# Altium integrated library Linear Technology Power Management uModule Regulators.IntLib: 166 symbols (part 44 of 67)
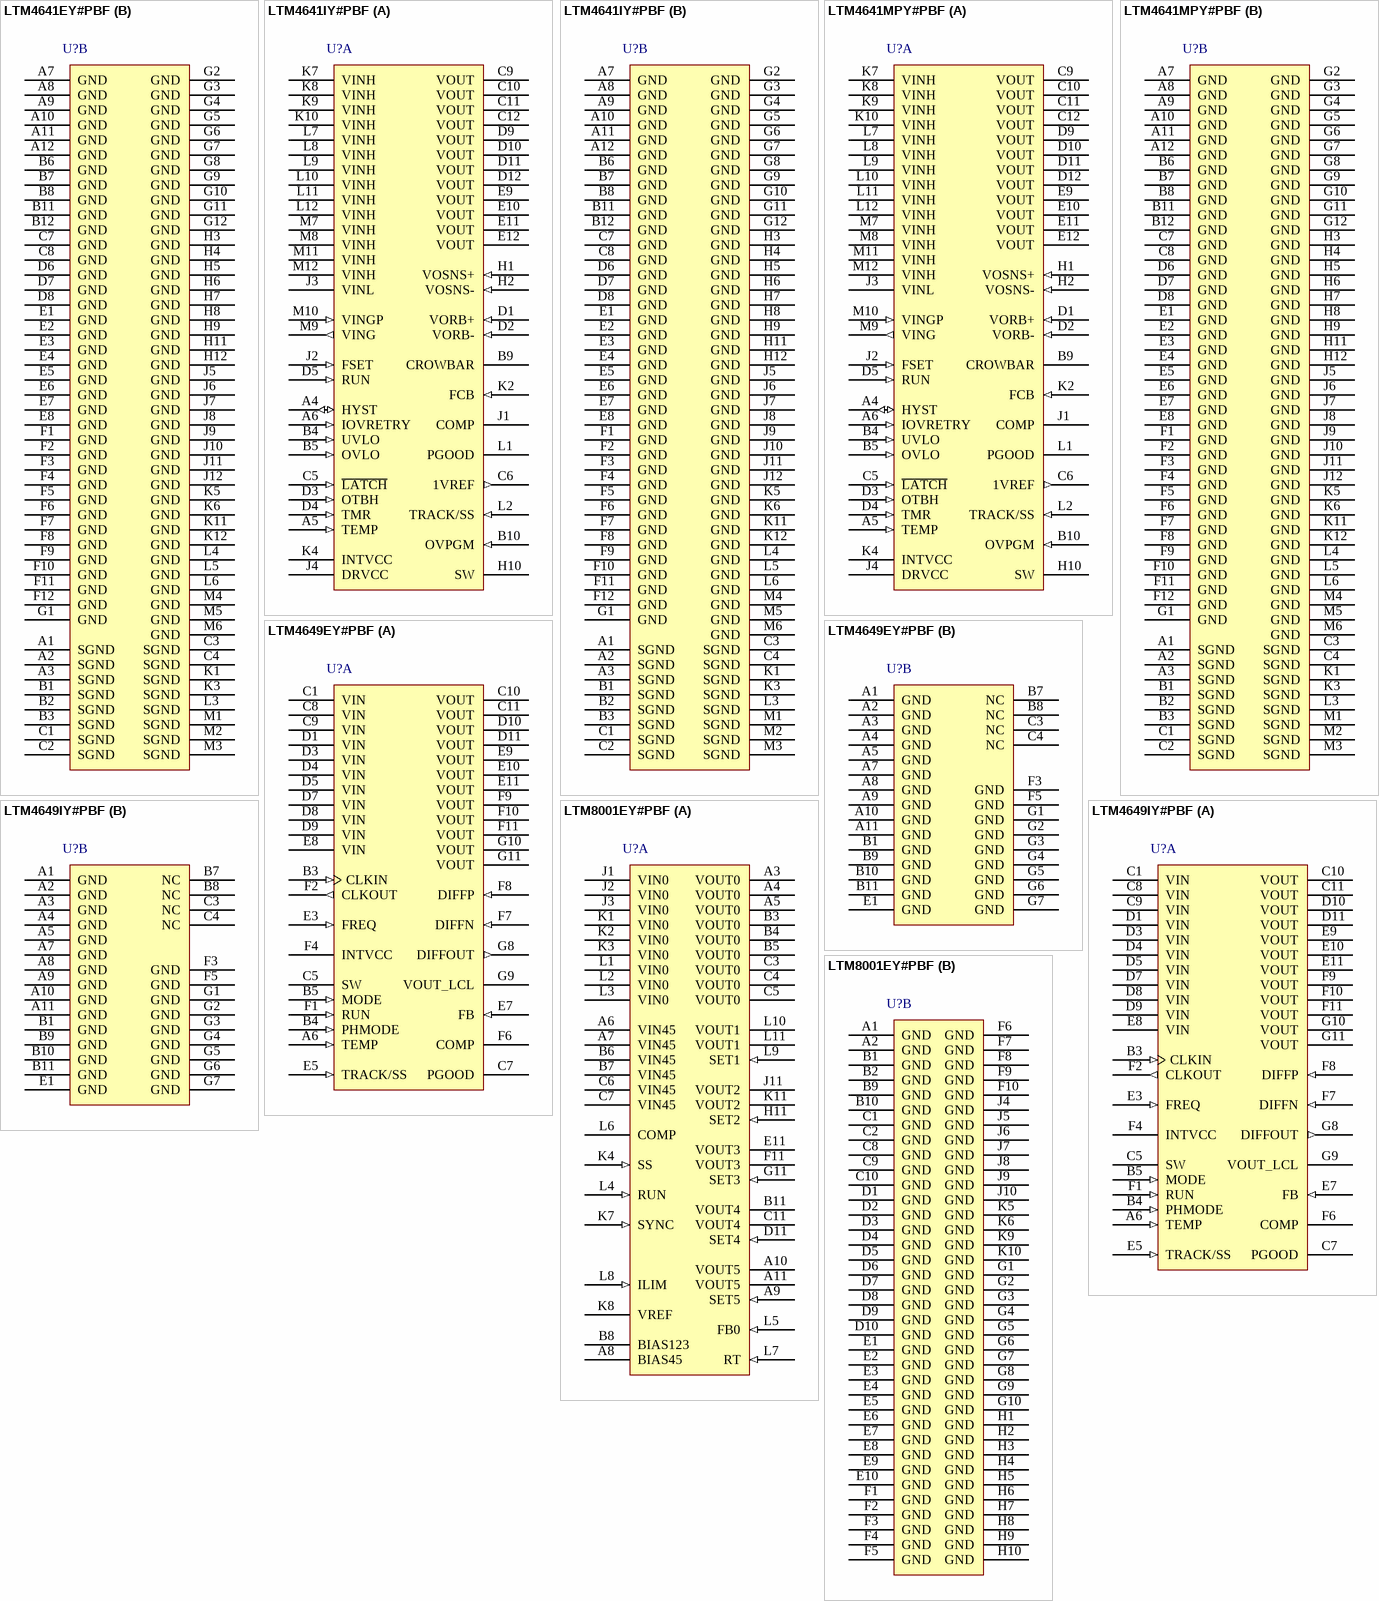
[diagram p70: symbols LTM4641EY#PBF to LTM8001EY#PBF]

## LTM4641IY#PBF
designator U?
38 V, 10 A DC/DC uModule Regulator with Advanced Input and Load Protection, 144-pin BGA, -40 to 125 degC, Pb-Free, Tray; Manufacturer: Linear Technology; PartNumber: LTM4641IY#PBF; Extended Temp: E, I, MP; Ishutdown(uA): 200; Isupply(mA): 14.5; Number of Outputs: 1; Output Current(A): 10; Switch Current(A): 15; Synchronous: yes; Topology: Buck; Vin Max(V): 38; Vin Min(V): 4.5; Vout Max(V): 6; Vout Min(V): 0.6; DatasheetVersion: Rev. C; PackageVersion: Rev. A, 01/2013; PackageReference: BGA-144; PackageDescription: 144-Ball BGA, Body 15 x15 mm, Pitch 1.27 mm; Supplier 1: Digi-Key; Supplier Part Number 1: LTM4641IY#PBF-ND; Supplier 2: Farnell; Supplier Part Number 2: 2293137; Supplier 3: Newark; Supplier Part Number 3: 48W6442; Packing: Tray; RoHS: TRUE; Tracking: yes; Mounting Technology: Surface Mount; Code_JEDEC: MS-028; ComponentLink1Description: Manufacturer URL; ComponentLink1URL: http://www.linear.com/; ComponentLink2Description: Datasheet; ComponentLink2URL: http://cds.linear.com/docs/en/datasheet/4641fc.pdf; ComponentLink3Description: Package Specification; ComponentLink3URL: http://cds.linear.com/docs/en/packaging/05081914_A_bga144.pdf
footprint LT-BGA-144-05-08-1914 (BGA, 144-Balls, Body 15x15mm, Pitch 1.27mm)
part A pins: A4 HYST (io) "Input Undervoltage Hysteresis Programming Pin. Normally used as an output, but can be used as an input. If the LTM4641’s inherent, default undervoltage lockout (UVLO) settings are satisfactory, 4.5VIN(RISING, MAX) an(See Datasheet)", A5 TEMP (in) "Power Stage Temperature Indicator and Overtemperature Detection Pin. When left electrically open circuit, TEMP’s voltage varies according to an internal NTC (negative temperature coefficient) thermistor, residing in clos(See Datasheet)", A6 IOVRETRY (in) "Nonlatching Input Overvoltage Threshold Programming Pin. The LTM4641 pulls HYST low to inhibit regulation of its output voltage when IOVRETRY exceeds 0.5V. The LTM4641 can resume switching action when IOVRETRY is below 0.5V. (See Datasheet)", B4 UVLO (in) "Input Undervoltage Lockout Programming Pin. The LTM4641 pulls HYST low to inhibit regulation of its output voltage whenever UVLO is less than 0.5V. The LTM4641 can resume switching action when UVLO exceeds 0.5V. Do not leave (See Datasheet)", B5 OVLO (in) "Input Overvoltage Latchoff Programming Pin. LTM4641 pulls HYST low to inhibit regulation of its output voltage when OVLO exceeds 0.5V. If OVLO subsequently falls below 0.5V, the module’s output remains latched off; th(See Datasheet)", B9 CROWBAR (hiz) "Crowbar Output Pin. Normally logic low, with moderate pull-down strength to SGND.", B10 OVPGM (in) "Output Overvoltage Threshold Programming Pin. The voltage on this pin sets the trip threshold for the inverting input pin of LTM4641’s fast OOV comparator. When left electrically open circuit, resistors internal to th(See Datasheet)", C5 ~{LATCH} (in) "Latchoff Reset Pin. When a latchoff fault occurs, the LTM4641 turns off its output and latches MHYST on to indicate a fault condition has occurred (see HYST). To configure the LTM4641 for latched off response to latchoff (See Datasheet)", C6 1VREF (out) "Buffered 1V Reference Output Pin. Minimize capacitance on this pin, to assure the OVPGM and TEMP pins are operational in a timely manner at power-up. 1VREF should never be externally loaded except as explained in the (See Datasheet)", C9 VOUT (power) "Power Output Pins of the LTM4641 DC/DC Converter Power Stage. All VOUT pins are electrically connected to each other, internally. Apply output load between these pins and the GND pins. It is recommended to place output (See Datasheet)", C10 VOUT (power) "Power Output Pins of the LTM4641 DC/DC Converter Power Stage. All VOUT pins are electrically connected to each other, internally. Apply output load between these pins and the GND pins. It is recommended to place output (See Datasheet)", C11 VOUT (power) "Power Output Pins of the LTM4641 DC/DC Converter Power Stage. All VOUT pins are electrically connected to each other, internally. Apply output load between these pins and the GND pins. It is recommended to place output (See Datasheet)", C12 VOUT (power) "Power Output Pins of the LTM4641 DC/DC Converter Power Stage. All VOUT pins are electrically connected to each other, internally. Apply output load between these pins and the GND pins. It is recommended to place output (See Datasheet)", D1 VORB+ (in) "VOSNS + Readback Pin. This pin connects to VOSNS + internal to the uModule regulator. It is recommended to route this pin (differentially with VORB -) to a test point so as to allow the user a way to confirm the integrity of (See Datasheet)", D2 VORB- (in) "VOSNS - Readback Pin. This pin connects to VOSNS - internal to the uModule regulator. It is recommended to route this pin (differentially with VORB +) to a test point so as to allow the user a way to confirm the integrity of (See Datasheet)", D3 OTBH (in) "Overtemperature Behavior Programming Pin. When an overtemperature condition is detected (see TEMP), HYST pulls logic low to inhibit switching. If OTBH is connected to SGND, the LTM4641 latches HYST low. If OTBH is left (See Datasheet)", D4 TMR (in) "Timeout Delay Timer and Power-On Reset (POR) Programming Pin. Connect a capacitor (CTMR) from TMR to SGND to program the POR and timeout delay time of the LTM4641; 9ms delay time per nanofarad of capacitance. The minimum (See Datasheet)", D5 RUN (in) "Run (On/Off) Control Pin. A RUN pin voltage below 0.8V will turn off the module. A voltage above 2V will command the module to turn on, if HYST is not asserted low by MHYST. The LTM4641 contains a moderate (10k) pull-up (See Datasheet)", D9 VOUT (power) "Power Output Pins of the LTM4641 DC/DC Converter Power Stage. All VOUT pins are electrically connected to each other, internally. Apply output load between these pins and the GND pins. It is recommended to place output (See Datasheet)", D10 VOUT (power) "Power Output Pins of the LTM4641 DC/DC Converter Power Stage. All VOUT pins are electrically connected to each other, internally. Apply output load between these pins and the GND pins. It is recommended to place output (See Datasheet)", D11 VOUT (power) "Power Output Pins of the LTM4641 DC/DC Converter Power Stage. All VOUT pins are electrically connected to each other, internally. Apply output load between these pins and the GND pins. It is recommended to place output (See Datasheet)", D12 VOUT (power) "Power Output Pins of the LTM4641 DC/DC Converter Power Stage. All VOUT pins are electrically connected to each other, internally. Apply output load between these pins and the GND pins. It is recommended to place output (See Datasheet)", E9 VOUT (power) "Power Output Pins of the LTM4641 DC/DC Converter Power Stage. All VOUT pins are electrically connected to each other, internally. Apply output load between these pins and the GND pins. It is recommended to place output (See Datasheet)", E10 VOUT (power) "Power Output Pins of the LTM4641 DC/DC Converter Power Stage. All VOUT pins are electrically connected to each other, internally. Apply output load between these pins and the GND pins. It is recommended to place output (See Datasheet)", E11 VOUT (power) "Power Output Pins of the LTM4641 DC/DC Converter Power Stage. All VOUT pins are electrically connected to each other, internally. Apply output load between these pins and the GND pins. It is recommended to place output (See Datasheet)", E12 VOUT (power) "Power Output Pins of the LTM4641 DC/DC Converter Power Stage. All VOUT pins are electrically connected to each other, internally. Apply output load between these pins and the GND pins. It is recommended to place output (See Datasheet)", H1 VOSNS+ (in) "Positive Input to the Remote Sense Differential Amplifier. This pin connects to the positive side of the output voltage remote sense point (VOUT potential) via a resistor (RSET1A). When regulating the output voltage, the (See Datasheet)", H2 VOSNS- (in) "Negative Input to the Remote Sense Differential Amplifier. This pin connects to the negative side of the output voltage remote sense point (GND potential) via a resistor (RSET1B). When switching action is on, the LTM4641 (See Datasheet)", H10 SW "Switching Node of the Power Stage. Mainly used for testing purposes, however, one may optionally connect a snubber (series-configured capacitor CSW and resistor RSW) from SW to GND to reduce radiated EMI-in exchange for a (See Datasheet)", J1 COMP "Current Control Threshold and Error Amplifier Compensation Point. The current comparator threshold of LTM4641’s valley current mode control loop-and correspondingly, the commanded trough of the power inducto(See Datasheet)", J2 FSET (in) "Switching Frequency Setting and Adjustment Pin. This pin interfaces directly to the ION pin of LTM4641’s internal control IC. Current flow into the ION pin programs the on-time of the control loop’s one-shot timer (See Datasheet)", J3 VINL (power) "Input Voltage Pin, Low Current for Power Control and Logic Bias. Feeds LTM4641’s internal 5.3V LDO (see INTVCC). Apply input voltage bias between this pin and GND. Decouple to GND with a capacitor (0.1uF to 1uF). This pi(See Datasheet)", J4 DRVCC (power) "Power MOSFET Driver Input Power Pin. DRVCC is normally connected to INTVCC. It must be kept within two diode drops (2 x VBE or ~1.2V at 25degreesC) of INTVCC. DRVCC powers the internal MOSFET driver that interfaces to the (See Datasheet)", K2 FCB (in) "Forced Continuous/Pulse-Skipping Mode Operation Programming Pin. Connect this pin to SGND to force continuous mode operation of the synchronous power MOSFETs (MTOP and MBOT) at all output load conditions. Connect this pin to (See Datasheet)", K4 INTVCC (power) "Internal 5.3V LDO Output. LDO operates off of VINL. The INTVCC rail biases low power control and housekeeping circuitry. INTVCC is usually connected to DRVCC to power the MOSFET drivers interfacing to the switching power (See Datasheet)", K7 VINH (power) "Input Voltage Pin, High Current to the Power Converter Stage of the LTM4641. All VINH pins are electrically connected to each other internally. Devote a large copper plane to connect as many of the VINH pins to each other as (See Datasheet)", K8 VINH (power) "Input Voltage Pin, High Current to the Power Converter Stage of the LTM4641. All VINH pins are electrically connected to each other internally. Devote a large copper plane to connect as many of the VINH pins to each other as (See Datasheet)", K9 VINH (power) "Input Voltage Pin, High Current to the Power Converter Stage of the LTM4641. All VINH pins are electrically connected to each other internally. Devote a large copper plane to connect as many of the VINH pins to each other as (See Datasheet)", K10 VINH (power) "Input Voltage Pin, High Current to the Power Converter Stage of the LTM4641. All VINH pins are electrically connected to each other internally. Devote a large copper plane to connect as many of the VINH pins to each other as (See Datasheet)", L1 PGOOD (oc) "Output Voltage Power Good Indicator. This is an open-drain logic output pin that is pulled to ground when the output voltage (and accordingly, the divided-down representation of the output voltage, VFB, as presented to the (See Datasheet)", L2 TRACK/SS (in) "Output Voltage Tracking and Soft-Start SGND to obtain an output voltage soft-start ramp-up rate whose turn-on time is 0.6ms per nanofarad of capacitance. Alternatively, when a voltage is applied to TRACK/SS through a (See Datasheet)", L7 VINH (power) "Input Voltage Pin, High Current to the Power Converter Stage of the LTM4641. All VINH pins are electrically connected to each other internally. Devote a large copper plane to connect as many of the VINH pins to each other as (See Datasheet)", L8 VINH (power) "Input Voltage Pin, High Current to the Power Converter Stage of the LTM4641. All VINH pins are electrically connected to each other internally. Devote a large copper plane to connect as many of the VINH pins to each other as (See Datasheet)", L9 VINH (power) "Input Voltage Pin, High Current to the Power Converter Stage of the LTM4641. All VINH pins are electrically connected to each other internally. Devote a large copper plane to connect as many of the VINH pins to each other as (See Datasheet)", L10 VINH (power) "Input Voltage Pin, High Current to the Power Converter Stage of the LTM4641. All VINH pins are electrically connected to each other internally. Devote a large copper plane to connect as many of the VINH pins to each other as (See Datasheet)", L11 VINH (power) "Input Voltage Pin, High Current to the Power Converter Stage of the LTM4641. All VINH pins are electrically connected to each other internally. Devote a large copper plane to connect as many of the VINH pins to each other as (See Datasheet)", L12 VINH (power) "Input Voltage Pin, High Current to the Power Converter Stage of the LTM4641. All VINH pins are electrically connected to each other internally. Devote a large copper plane to connect as many of the VINH pins to each other as (See Datasheet)", M7 VINH (power) "Input Voltage Pin, High Current to the Power Converter Stage of the LTM4641. All VINH pins are electrically connected to each other internally. Devote a large copper plane to connect as many of the VINH pins to each other as (See Datasheet)", M8 VINH (power) "Input Voltage Pin, High Current to the Power Converter Stage of the LTM4641. All VINH pins are electrically connected to each other internally. Devote a large copper plane to connect as many of the VINH pins to each other as (See Datasheet)", M9 VING (out) "Gate Drive Output Pin. If utilizing the advanced output overvoltage (OOV) protection features of the LTM4641, connect VING to VINGP and to the gate of the external power-interrupt N-channel MOSFET feeding VINH, identified on (See Datasheet)", M10 VINGP (in) "Gate Drive Protection Pin. If utilizing the advanced OOV protection features of the LTM4641, connect VINGP to VING and to the gate of the external power-interrupt N-channel MOSFET feeding VINH, MSP; otherwise, leave this pin (See Datasheet)", M11 VINH (power) "Input Voltage Pin, High Current to the Power Converter Stage of the LTM4641. All VINH pins are electrically connected to each other internally. Devote a large copper plane to connect as many of the VINH pins to each other as (See Datasheet)", M12 VINH (power) "Input Voltage Pin, High Current to the Power Converter Stage of the LTM4641. All VINH pins are electrically connected to each other internally. Devote a large copper plane to connect as many of the VINH pins to each other as (See Datasheet)"
part B pins: A1 SGND (power) "Signal Ground Pins. This is the return ground path for all analog control and low power circuitry. SGND is tied to GND internal to the uModule regulator in a manner that promotes the best internal signal integrity-therefore, (See Datasheet)", A2 SGND (power) "Signal Ground Pins. This is the return ground path for all analog control and low power circuitry. SGND is tied to GND internal to the uModule regulator in a manner that promotes the best internal signal integrity-therefore, (See Datasheet)", A3 SGND (power) "Signal Ground Pins. This is the return ground path for all analog control and low power circuitry. SGND is tied to GND internal to the uModule regulator in a manner that promotes the best internal signal integrity-therefore, (See Datasheet)", A7 GND (power) "Power ground pins for input and output returns. See the Layout Checklist/Example section of the Applications Information section. All GND pins are electrically connected to each other, internally.", A8 GND (power) "Power ground pins for input and output returns. See the Layout Checklist/Example section of the Applications Information section. All GND pins are electrically connected to each other, internally.", A9 GND (power) "Power ground pins for input and output returns. See the Layout Checklist/Example section of the Applications Information section. All GND pins are electrically connected to each other, internally.", A10 GND (power) "Power ground pins for input and output returns. See the Layout Checklist/Example section of the Applications Information section. All GND pins are electrically connected to each other, internally.", A11 GND (power) "Power ground pins for input and output returns. See the Layout Checklist/Example section of the Applications Information section. All GND pins are electrically connected to each other, internally.", A12 GND (power) "Power ground pins for input and output returns. See the Layout Checklist/Example section of the Applications Information section. All GND pins are electrically connected to each other, internally.", B1 SGND (power) "Signal Ground Pins. This is the return ground path for all analog control and low power circuitry. SGND is tied to GND internal to the uModule regulator in a manner that promotes the best internal signal integrity-therefore, (See Datasheet)", B2 SGND (power) "Signal Ground Pins. This is the return ground path for all analog control and low power circuitry. SGND is tied to GND internal to the uModule regulator in a manner that promotes the best internal signal integrity-therefore, (See Datasheet)", B3 SGND (power) "Signal Ground Pins. This is the return ground path for all analog control and low power circuitry. SGND is tied to GND internal to the uModule regulator in a manner that promotes the best internal signal integrity-therefore, (See Datasheet)", B6 GND (power) "Power ground pins for input and output returns. See the Layout Checklist/Example section of the Applications Information section. All GND pins are electrically connected to each other, internally.", B7 GND (power) "Power ground pins for input and output returns. See the Layout Checklist/Example section of the Applications Information section. All GND pins are electrically connected to each other, internally.", B8 GND (power) "Power ground pins for input and output returns. See the Layout Checklist/Example section of the Applications Information section. All GND pins are electrically connected to each other, internally.", B11 GND (power) "Power ground pins for input and output returns. See the Layout Checklist/Example section of the Applications Information section. All GND pins are electrically connected to each other, internally.", B12 GND (power) "Power ground pins for input and output returns. See the Layout Checklist/Example section of the Applications Information section. All GND pins are electrically connected to each other, internally.", C1 SGND (power) "Signal Ground Pins. This is the return ground path for all analog control and low power circuitry. SGND is tied to GND internal to the uModule regulator in a manner that promotes the best internal signal integrity-therefore, (See Datasheet)", C2 SGND (power) "Signal Ground Pins. This is the return ground path for all analog control and low power circuitry. SGND is tied to GND internal to the uModule regulator in a manner that promotes the best internal signal integrity-therefore, (See Datasheet)", C3 SGND (power) "Signal Ground Pins. This is the return ground path for all analog control and low power circuitry. SGND is tied to GND internal to the uModule regulator in a manner that promotes the best internal signal integrity-therefore, (See Datasheet)", C4 SGND (power) "Signal Ground Pins. This is the return ground path for all analog control and low power circuitry. SGND is tied to GND internal to the uModule regulator in a manner that promotes the best internal signal integrity-therefore, (See Datasheet)", C7 GND (power) "Power ground pins for input and output returns. See the Layout Checklist/Example section of the Applications Information section. All GND pins are electrically connected to each other, internally.", C8 GND (power) "Power ground pins for input and output returns. See the Layout Checklist/Example section of the Applications Information section. All GND pins are electrically connected to each other, internally.", D6 GND (power) "Power ground pins for input and output returns. See the Layout Checklist/Example section of the Applications Information section. All GND pins are electrically connected to each other, internally.", D7 GND (power) "Power ground pins for input and output returns. See the Layout Checklist/Example section of the Applications Information section. All GND pins are electrically connected to each other, internally.", D8 GND (power) "Power ground pins for input and output returns. See the Layout Checklist/Example section of the Applications Information section. All GND pins are electrically connected to each other, internally.", E1 GND (power) "Power ground pins for input and output returns. See the Layout Checklist/Example section of the Applications Information section. All GND pins are electrically connected to each other, internally.", E2 GND (power) "Power ground pins for input and output returns. See the Layout Checklist/Example section of the Applications Information section. All GND pins are electrically connected to each other, internally.", E3 GND (power) "Power ground pins for input and output returns. See the Layout Checklist/Example section of the Applications Information section. All GND pins are electrically connected to each other, internally.", E4 GND (power) "Power ground pins for input and output returns. See the Layout Checklist/Example section of the Applications Information section. All GND pins are electrically connected to each other, internally.", E5 GND (power) "Power ground pins for input and output returns. See the Layout Checklist/Example section of the Applications Information section. All GND pins are electrically connected to each other, internally.", E6 GND (power) "Power ground pins for input and output returns. See the Layout Checklist/Example section of the Applications Information section. All GND pins are electrically connected to each other, internally.", E7 GND (power) "Power ground pins for input and output returns. See the Layout Checklist/Example section of the Applications Information section. All GND pins are electrically connected to each other, internally.", E8 GND (power) "Power ground pins for input and output returns. See the Layout Checklist/Example section of the Applications Information section. All GND pins are electrically connected to each other, internally.", F1 GND (power) "Power ground pins for input and output returns. See the Layout Checklist/Example section of the Applications Information section. All GND pins are electrically connected to each other, internally.", F2 GND (power) "Power ground pins for input and output returns. See the Layout Checklist/Example section of the Applications Information section. All GND pins are electrically connected to each other, internally.", F3 GND (power) "Power ground pins for input and output returns. See the Layout Checklist/Example section of the Applications Information section. All GND pins are electrically connected to each other, internally.", F4 GND (power) "Power ground pins for input and output returns. See the Layout Checklist/Example section of the Applications Information section. All GND pins are electrically connected to each other, internally.", F5 GND (power) "Power ground pins for input and output returns. See the Layout Checklist/Example section of the Applications Information section. All GND pins are electrically connected to each other, internally.", F6 GND (power) "Power ground pins for input and output returns. See the Layout Checklist/Example section of the Applications Information section. All GND pins are electrically connected to each other, internally.", F7 GND (power) "Power ground pins for input and output returns. See the Layout Checklist/Example section of the Applications Information section. All GND pins are electrically connected to each other, internally.", F8 GND (power) "Power ground pins for input and output returns. See the Layout Checklist/Example section of the Applications Information section. All GND pins are electrically connected to each other, internally.", F9 GND (power) "Power ground pins for input and output returns. See the Layout Checklist/Example section of the Applications Information section. All GND pins are electrically connected to each other, internally.", F10 GND (power) "Power ground pins for input and output returns. See the Layout Checklist/Example section of the Applications Information section. All GND pins are electrically connected to each other, internally.", F11 GND (power) "Power ground pins for input and output returns. See the Layout Checklist/Example section of the Applications Information section. All GND pins are electrically connected to each other, internally.", F12 GND (power) "Power ground pins for input and output returns. See the Layout Checklist/Example section of the Applications Information section. All GND pins are electrically connected to each other, internally.", G1 GND (power) "Power ground pins for input and output returns. See the Layout Checklist/Example section of the Applications Information section. All GND pins are electrically connected to each other, internally.", G2 GND (power) "Power ground pins for input and output returns. See the Layout Checklist/Example section of the Applications Information section. All GND pins are electrically connected to each other, internally.", G3 GND (power) "Power ground pins for input and output returns. See the Layout Checklist/Example section of the Applications Information section. All GND pins are electrically connected to each other, internally.", G4 GND (power) "Power ground pins for input and output returns. See the Layout Checklist/Example section of the Applications Information section. All GND pins are electrically connected to each other, internally.", G5 GND (power) "Power ground pins for input and output returns. See the Layout Checklist/Example section of the Applications Information section. All GND pins are electrically connected to each other, internally.", G6 GND (power) "Power ground pins for input and output returns. See the Layout Checklist/Example section of the Applications Information section. All GND pins are electrically connected to each other, internally.", G7 GND (power) "Power ground pins for input and output returns. See the Layout Checklist/Example section of the Applications Information section. All GND pins are electrically connected to each other, internally.", G8 GND (power) "Power ground pins for input and output returns. See the Layout Checklist/Example section of the Applications Information section. All GND pins are electrically connected to each other, internally.", G9 GND (power) "Power ground pins for input and output returns. See the Layout Checklist/Example section of the Applications Information section. All GND pins are electrically connected to each other, internally.", G10 GND (power) "Power ground pins for input and output returns. See the Layout Checklist/Example section of the Applications Information section. All GND pins are electrically connected to each other, internally.", G11 GND (power) "Power ground pins for input and output returns. See the Layout Checklist/Example section of the Applications Information section. All GND pins are electrically connected to each other, internally.", G12 GND (power) "Power ground pins for input and output returns. See the Layout Checklist/Example section of the Applications Information section. All GND pins are electrically connected to each other, internally.", H3 GND (power) "Power ground pins for input and output returns. See the Layout Checklist/Example section of the Applications Information section. All GND pins are electrically connected to each other, internally.", H4 GND (power) "Power ground pins for input and output returns. See the Layout Checklist/Example section of the Applications Information section. All GND pins are electrically connected to each other, internally.", H5 GND (power) "Power ground pins for input and output returns. See the Layout Checklist/Example section of the Applications Information section. All GND pins are electrically connected to each other, internally.", H6 GND (power) "Power ground pins for input and output returns. See the Layout Checklist/Example section of the Applications Information section. All GND pins are electrically connected to each other, internally.", H7 GND (power) "Power ground pins for input and output returns. See the Layout Checklist/Example section of the Applications Information section. All GND pins are electrically connected to each other, internally.", H8 GND (power) "Power ground pins for input and output returns. See the Layout Checklist/Example section of the Applications Information section. All GND pins are electrically connected to each other, internally.", H9 GND (power) "Power ground pins for input and output returns. See the Layout Checklist/Example section of the Applications Information section. All GND pins are electrically connected to each other, internally.", H11 GND (power) "Power ground pins for input and output returns. See the Layout Checklist/Example section of the Applications Information section. All GND pins are electrically connected to each other, internally.", H12 GND (power) "Power ground pins for input and output returns. See the Layout Checklist/Example section of the Applications Information section. All GND pins are electrically connected to each other, internally.", J5 GND (power) "Power ground pins for input and output returns. See the Layout Checklist/Example section of the Applications Information section. All GND pins are electrically connected to each other, internally.", J6 GND (power) "Power ground pins for input and output returns. See the Layout Checklist/Example section of the Applications Information section. All GND pins are electrically connected to each other, internally.", J7 GND (power) "Power ground pins for input and output returns. See the Layout Checklist/Example section of the Applications Information section. All GND pins are electrically connected to each other, internally.", J8 GND (power) "Power ground pins for input and output returns. See the Layout Checklist/Example section of the Applications Information section. All GND pins are electrically connected to each other, internally.", J9 GND (power) "Power ground pins for input and output returns. See the Layout Checklist/Example section of the Applications Information section. All GND pins are electrically connected to each other, internally.", J10 GND (power) "Power ground pins for input and output returns. See the Layout Checklist/Example section of the Applications Information section. All GND pins are electrically connected to each other, internally.", J11 GND (power) "Power ground pins for input and output returns. See the Layout Checklist/Example section of the Applications Information section. All GND pins are electrically connected to each other, internally.", J12 GND (power) "Power ground pins for input and output returns. See the Layout Checklist/Example section of the Applications Information section. All GND pins are electrically connected to each other, internally.", K1 SGND (power) "Signal Ground Pins. This is the return ground path for all analog control and low power circuitry. SGND is tied to GND internal to the uModule regulator in a manner that promotes the best internal signal integrity-therefore, (See Datasheet)", K3 SGND (power) "Signal Ground Pins. This is the return ground path for all analog control and low power circuitry. SGND is tied to GND internal to the uModule regulator in a manner that promotes the best internal signal integrity-therefore, (See Datasheet)", K5 GND (power) "Power ground pins for input and output returns. See the Layout Checklist/Example section of the Applications Information section. All GND pins are electrically connected to each other, internally.", K6 GND (power) "Power ground pins for input and output returns. See the Layout Checklist/Example section of the Applications Information section. All GND pins are electrically connected to each other, internally.", K11 GND (power) "Power ground pins for input and output returns. See the Layout Checklist/Example section of the Applications Information section. All GND pins are electrically connected to each other, internally.", K12 GND (power) "Power ground pins for input and output returns. See the Layout Checklist/Example section of the Applications Information section. All GND pins are electrically connected to each other, internally.", L3 SGND (power) "Signal Ground Pins. This is the return ground path for all analog control and low power circuitry. SGND is tied to GND internal to the uModule regulator in a manner that promotes the best internal signal integrity-therefore, (See Datasheet)", L4 GND (power) "Power ground pins for input and output returns. See the Layout Checklist/Example section of the Applications Information section. All GND pins are electrically connected to each other, internally.", L5 GND (power) "Power ground pins for input and output returns. See the Layout Checklist/Example section of the Applications Information section. All GND pins are electrically connected to each other, internally.", L6 GND (power) "Power ground pins for input and output returns. See the Layout Checklist/Example section of the Applications Information section. All GND pins are electrically connected to each other, internally.", M1 SGND (power) "Signal Ground Pins. This is the return ground path for all analog control and low power circuitry. SGND is tied to GND internal to the uModule regulator in a manner that promotes the best internal signal integrity-therefore, (See Datasheet)", M2 SGND (power) "Signal Ground Pins. This is the return ground path for all analog control and low power circuitry. SGND is tied to GND internal to the uModule regulator in a manner that promotes the best internal signal integrity-therefore, (See Datasheet)", M3 SGND (power) "Signal Ground Pins. This is the return ground path for all analog control and low power circuitry. SGND is tied to GND internal to the uModule regulator in a manner that promotes the best internal signal integrity-therefore, (See Datasheet)", M4 GND (power) "Power ground pins for input and output returns. See the Layout Checklist/Example section of the Applications Information section. All GND pins are electrically connected to each other, internally.", M5 GND (power) "Power ground pins for input and output returns. See the Layout Checklist/Example section of the Applications Information section. All GND pins are electrically connected to each other, internally.", M6 GND (power) "Power ground pins for input and output returns. See the Layout Checklist/Example section of the Applications Information section. All GND pins are electrically connected to each other, internally."